# Altium schematic symbol library CONN_DC_JACK_2.1mmID_5.5mmOD_RA_TH.SchLib: 1 symbol
Pins are listed as number, name and electrical type; pins without a type are passive.

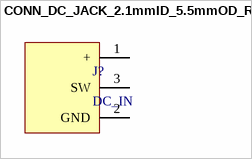
[diagram p0: symbol CONN_DC_JACK_2.1mmID_5.5mmOD_RA_TH]

## CONN_DC_JACK_2.1mmID_5.5mmOD_RA_TH
designator J?, comment DC_IN
Power Barrel Connector Jack 2.10mm ID (0.083"), 5.50mm OD (0.217") Through Hole, Right Angle; Supplier 1: Digi-Key; Supplier 2: Mouser; Supplier Part Number 1: CP-051AH-ND; Supplier Part Number 2: 490-PJ-051AH
footprint CONN_DC_JACK_2.1mmID_5.5mmOD_RA_TH
pins: 1 +, 2 GND, 3 SW